# EAGLE library part ATMEGA16U2 (library ATMEGA16U2)
AVR AVR ATmega Microcontroller IC 8-Bit 16MHz 16KB (8K x 16) FLASH 32-VQFN (5x5) Source: Datasheet <http://ww1.microchip.com/downloads/en/DeviceDoc/doc7799.pdf>
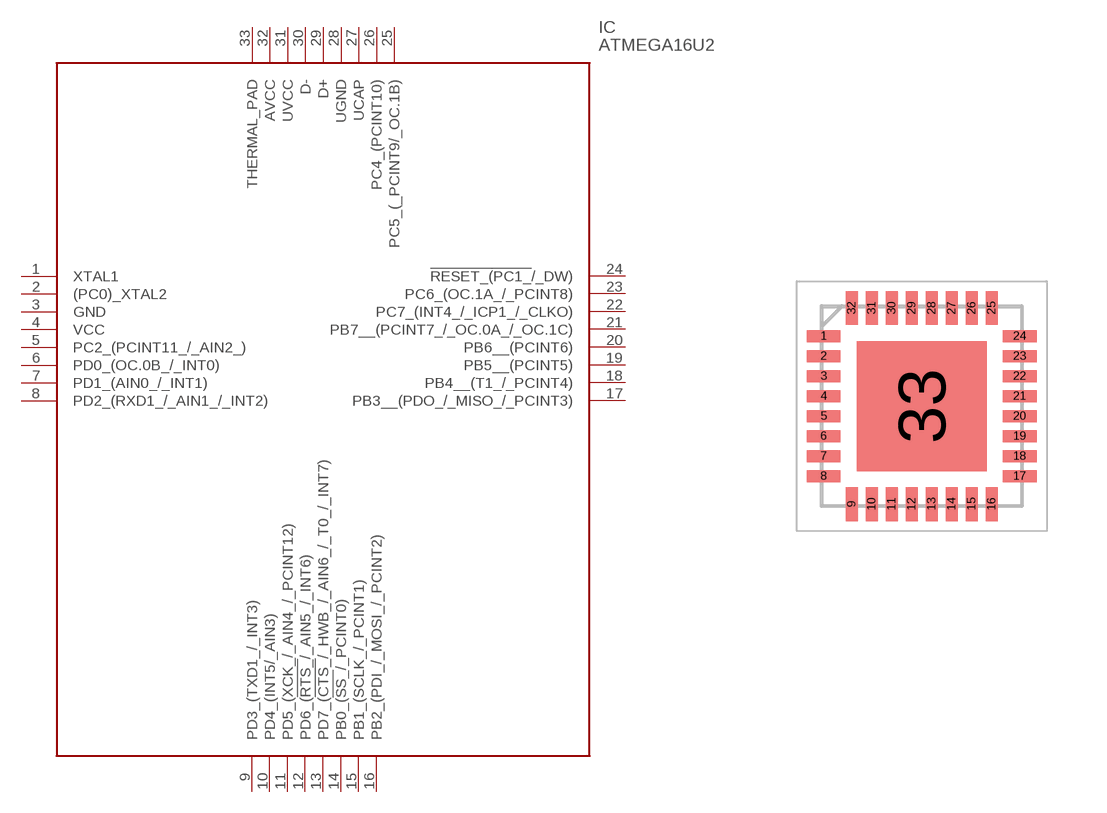
[diagram p0: symbol with the pads of QFN50P500X500X100-33N; footprint QFN50P500X500X100-33N]

Designator prefix IC

## ATMEGA16U2 (Description: AVR AVR ATmega Microcontroller IC 8-Bit 16MHz 16KB (8K x 16) FLASH 32-VQFN (5x5); Height: 1mm; Manufacturer_Name: Microchip; Manufacturer_Part_Number: ATMEGA16U2)  [QFN50P500X500X100-33N]
1  XTAL1
2  (PC0)_XTAL2
3  GND
4  VCC
5  PC2_(PCINT11_/_AIN2_)
6  PD0_(OC.0B_/_INT0)
7  PD1_(AIN0_/_INT1)
8  PD2_(RXD1_/_AIN1_/_INT2)
9  PD3_(TXD1_/_INT3)
10  PD4_(INT5/_AIN3)
11  PD5_(XCK_/_AIN4_/_PCINT12)
12  PD6_(!RTS_!/_AIN5_/_INT6)
13  PD7_(!CTS_!/_HWB_/_AIN6_/_T0_/_INT7)
14  PB0_(!SS_!/_PCINT0)
15  PB1_(SCLK_/_PCINT1)
16  PB2_(PDI_/_MOSI_/_PCINT2)
17  PB3__(PDO_/_MISO_/_PCINT3)
18  PB4__(T1_/_PCINT4)
19  PB5__(PCINT5)
20  PB6__(PCINT6)
21  PB7__(PCINT7_/_OC.0A_/_OC.1C)
22  PC7_(INT4_/_ICP1_/_CLKO)
23  PC6_(OC.1A_/_PCINT8)
24  !RESET_(PC1_!/_DW)
25  PC5_(_PCINT9/_OC.1B)
26  PC4_(PCINT10)
27  UCAP
28  UGND
29  D+
30  D-
31  UVCC
32  AVCC
33  THERMAL_PAD

## Footprint QFN50P500X500X100-33N (pad centres in mm)
32M1-A
smd 0.85 x 0.3: 1 -2.45,1.75; 2 -2.45,1.25; 3 -2.45,0.75; 4 -2.45,0.25; 5 -2.45,-0.25; 6 -2.45,-0.75; 7 -2.45,-1.25; 8 -2.45,-1.75; 17 2.45,-1.75; 18 2.45,-1.25; 19 2.45,-0.75; 20 2.45,-0.25; 21 2.45,0.25; 22 2.45,0.75; 23 2.45,1.25; 24 2.45,1.75
smd 0.3 x 0.85: 9 -1.75,-2.45; 10 -1.25,-2.45; 11 -0.75,-2.45; 12 -0.25,-2.45; 13 0.25,-2.45; 14 0.75,-2.45; 15 1.25,-2.45; 16 1.75,-2.45; 25 1.75,2.45; 26 1.25,2.45; 27 0.75,2.45; 28 0.25,2.45; 29 -0.25,2.45; 30 -0.75,2.45; 31 -1.25,2.45; 32 -1.75,2.45
smd 3.25 x 3.25: 33 0,0